# Altium footprint library LumexG.PcbLib: 1 footprints
Each footprint in its own frame and in the unit in brackets; x right, y up, seen from the top. Pads: shape width x height; smd on the part's side, far side on the other; paste and mask are expansions set on the pad; w line width, h text height; cw(c..) or ccw(c..) is an arc to the next point about the centre after c.
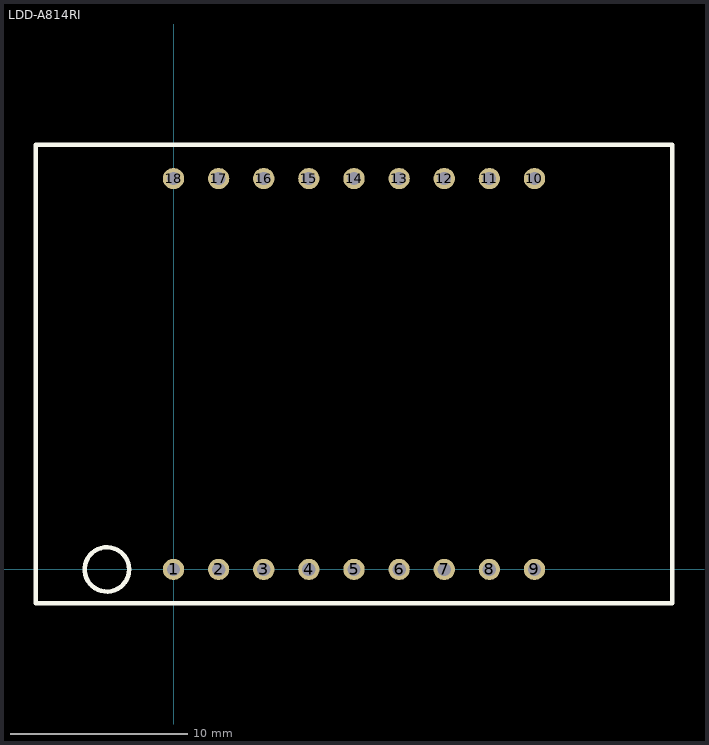
[diagram p0: the footprint, top view; thin cyan lines are the x and y axes]

## LDD-A814RI [mm] "0.80\" Seven segment, dual digit display"
height 10
pads (18):
  round 1.2 hole 0.75: 1(0,0) 2(2.54,0) 3(5.08,0) 4(7.62,0) 5(10.16,0) 6(12.7,0) 7(15.24,0) 8(17.78,0) 9(20.32,0) 10(20.32,22) 11(17.78,22) 12(15.24,22) 13(12.7,22) 14(10.16,22) 15(7.62,22) 16(5.08,22) 17(2.54,22) 18(0,22)
Top Overlay:
  circle w0.254: c-3.75,0 r1.25
  lines w0.254: 28.07,0 28.07,23.9 20.32,23.9 -7.75,23.9 -7.75,-1.9 20.32,-1.9 28.07,-1.9 28.07,0.1
3D body: height 10, standoff 0, extent -7.7,-1.9 28.1,23.9